# Altium schematic symbol library R7FA0E1073CSC#CA0.SchLib: 1 symbol
Pins are listed as number, name and electrical type; pins without a type are passive.

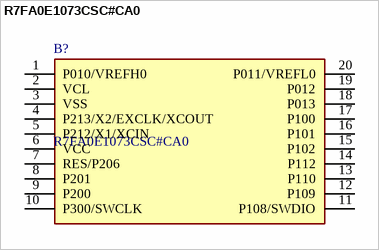
[diagram p0: symbol R7FA0E1073CSC#CA0]

## R7FA0E1073CSC#CA0
designator B?
The RA0E1 group is a basic, simple MCU in the entry line of the RA0 series, offering excellent cost effectiveness and ultra-low power consumption. It delivers up to 32MHz of CPU performance using an Arm Cortex-M23 core with up to 64KB of embedded flash memory and a wide supply voltage range from 1.6V to 5.5V. The RA0 series is ideal for cost-sensitive applications such as low power and lower cost for consumer electronics, system control for small appliances, industrial system control and building automation; Manufacturer_Name: Renesas Electronics; Geometry.Height: 1.45mm; Manufacturer_Part_Number: R7FA0E1073CSC#CA0; Mouser Part Number: *; Mouser Price/Stock: *; Arrow Part Number: *; Arrow Price/Stock: *; Datasheet Link: https://www.renesas.com/us/en/products/microcontrollers-microprocessors/ra-cortex-m-mcus/ra0e1-32mhz-arm-cortex-m23-entry-level-ultra-low-power-general-purpose-microcontroller
footprint SOP65P640X145-20N
pins: 1 P010/VREFH0, 2 VCL, 3 VSS, 4 P213/X2/EXCLK/XCOUT, 5 P212/X1/XCIN, 6 VCC, 7 RES/P206, 8 P201, 9 P200, 10 P300/SWCLK, 11 P108/SWDIO, 12 P109, 13 P110, 14 P112, 15 P102, 16 P101, 17 P100, 18 P013, 19 P012, 20 P011/VREFL0